# Altium footprint library RUMBA_library.PcbLib: 41 footprints (part 3 of 3)
Each footprint in its own frame and in the unit in brackets; x right, y up, seen from the top. Pads: shape width x height; smd on the part's side, far side on the other; paste and mask are expansions set on the pad; w line width, h text height; cw(c..) or ccw(c..) is an arc to the next point about the centre after c.
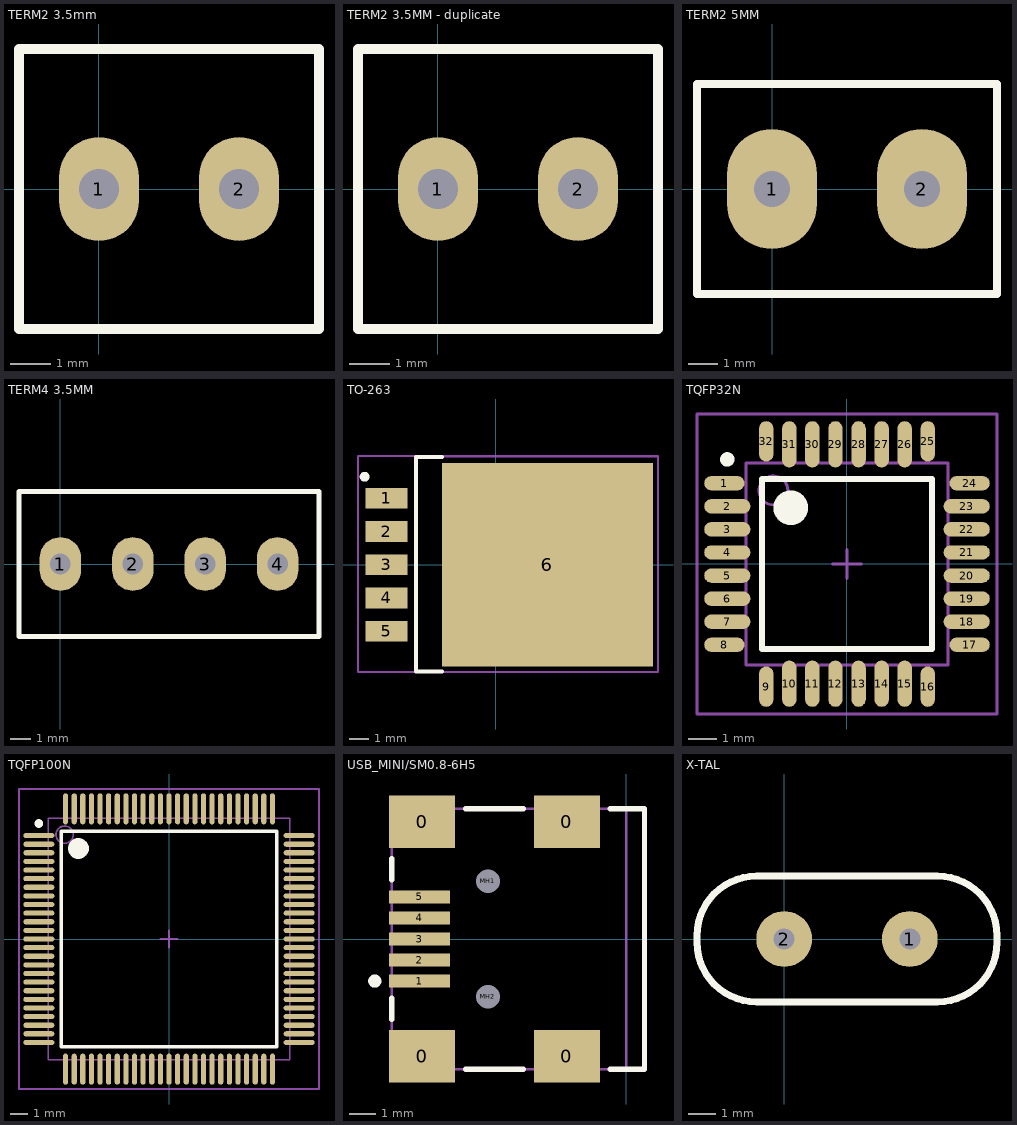
[diagram p2: the footprints below, top view; thin cyan lines are the x and y axes]

## TERM2 3.5mm [mm]
pads (2):
  oval 2x2.6 hole 1: 1(0,0) 2(3.5,0)
Top Overlay:
  lines w0.254: -2,-3.5 5.5,-3.5 5.5,3.5 -2,3.5 -2,-3.5
3D body "Term 2 pin 3.5mm.STEP": height 8.51, standoff -3.5, extent -1.854,-3.797 5.258,3.493

## TERM2 3.5MM - duplicate [mm]
pads (2):
  oval 2x2.6 hole 1: 1(0,0) 2(3.5,0)
Top Overlay:
  lines w0.254: -2,-3.5 -2,3.5 5.5,3.5 5.5,-3.5 -2,-3.5
3D body "Term 2 pin 3.5mm.STEP": height 8.51, standoff -3.5, extent -1.854,-3.67 5.258,3.62

## TERM2 5MM [mm]
pads (2):
  oval 3x4 hole 1.2: 1(0,0) 2(5,0)
Top Overlay:
  lines w0.254: -2.5,-3.5 -2.5,3.5 7.5,3.5 7.5,-3.5 -2.5,-3.5
3D body "Term 2 pin 5mm.STEP": height 14.6, standoff -2.92, extent -2.54,-4.902 7.468,5.004

## TERM4 3.5MM [mm]
pads (4):
  oval 2x2.6 hole 1: 1(0,0) 2(3.5,0) 3(7,0) 4(10.5,0)
Top Overlay:
  lines w0.254: -2,-3.5 12.5,-3.5 12.5,3.5 -2,3.5 -2,-3.5
3D body "Term 4 pin 3.5mm.STEP": height 8.51, standoff -3.5, extent -1.727,-3.81 12.243,3.48

## TO-263 [mm]
pads (6):
  rect 2.16x1.07 smd: 1(-5.582,3.4) 2(-5.582,1.7) 3(-5.582,0) 4(-5.582,-1.7) 5(-5.582,-3.4)
  rect 10.8x10.41 smd: 6(2.65,0)
Top Overlay:
  circle w0.25: c-6.7,4.5 r0.125
  lines w0.2: -4.064,5.512 -4.064,-5.461 -4.059,-5.466 -2.75,-5.466 ; -4.064,5.517 -2.75,5.517
Mechanical 13:
  lines w0.1: -4.039,-5.486 8.306,-5.486 8.306,5.537 -4.039,5.537 -4.039,-5.486
Mechanical 15:
  lines w0.1: -0.5,0 0.5,0 ; 0,-0.5 0,0.5 ; -7.036,-5.486 8.306,-5.486 8.306,5.563 -7.036,5.563 -7.036,-5.486
3D body "TO263-5-1.stp": height 4.22, standoff 0, extent -6.488,-4.919 8.114,4.902

## TQFP32N [mm]
pads (32):
  oval 1.4x0.5 smd: 1(-4.25,2.8) 8(-4.25,-2.8) 17(4.25,-2.8) 24(4.25,2.8)
  oval 1.6x0.5 smd: 2(-4.15,2) 3(-4.15,1.2) 4(-4.15,0.4) 5(-4.15,-0.4) 6(-4.15,-1.2) 7(-4.15,-2) 18(4.15,-2) 19(4.15,-1.2) 20(4.15,-0.4) 21(4.15,0.4) 22(4.15,1.2) 23(4.15,2)
  oval 0.5x1.4 smd: 9(-2.8,-4.25) 16(2.8,-4.25) 25(2.8,4.25) 32(-2.8,4.25)
  oval 0.5x1.6 smd: 10(-2,-4.15) 11(-1.2,-4.15) 12(-0.4,-4.15) 13(0.4,-4.15) 14(1.2,-4.15) 15(2,-4.15) 26(2,4.15) 27(1.2,4.15) 28(0.4,4.15) 29(-0.4,4.15) 30(-1.2,4.15) 31(-2,4.15)
Top Overlay:
  circle w0.6: c-1.95,1.95 r0.3
  circle w0.25: c-4.15,3.625 r0.125
  lines w0.2: -2.95,-2.95 2.95,-2.95 2.95,2.95 -2.95,2.95 -2.95,-2.95
Mechanical 13:
  circle w0.1: c-2.55,2.55 r0.5
  lines w0.1: -3.5,-3.5 3.5,-3.5 3.5,3.5 -3.5,3.5 -3.5,-3.5
Mechanical 15:
  lines w0.1: -0.5,0 0.5,0 ; 0,-0.5 0,0.5 ; -5.2,-5.2 5.2,-5.2 5.2,5.2 -5.2,5.2 -5.2,-5.2
3D body "TQFP-32.STEP": height 1.1, standoff 0, extent -4.5,-4.5 4.5,4.5

## TQFP100N [mm]
pads (100):
  oval 1.8x0.3 smd: 1(-7.55,6) 2(-7.55,5.5) 3(-7.55,5) 4(-7.55,4.5) 5(-7.55,4) 6(-7.55,3.5) 7(-7.55,3) 8(-7.55,2.5) 9(-7.55,2) 10(-7.55,1.5) 11(-7.55,1) 12(-7.55,0.5) 13(-7.55,0) 14(-7.55,-0.5) 15(-7.55,-1) 16(-7.55,-1.5) 17(-7.55,-2) 18(-7.55,-2.5) 19(-7.55,-3) 20(-7.55,-3.5) 21(-7.55,-4) 22(-7.55,-4.5) 23(-7.55,-5) 24(-7.55,-5.5) 25(-7.55,-6) 51(7.55,-6) 52(7.55,-5.5) 53(7.55,-5) 54(7.55,-4.5) 55(7.55,-4) 56(7.55,-3.5) 57(7.55,-3) 58(7.55,-2.5) 59(7.55,-2) 60(7.55,-1.5) 61(7.55,-1) 62(7.55,-0.5) 63(7.55,0) 64(7.55,0.5) 65(7.55,1) 66(7.55,1.5) 67(7.55,2) 68(7.55,2.5) 69(7.55,3) 70(7.55,3.5) 71(7.55,4) 72(7.55,4.5) 73(7.55,5) 74(7.55,5.5) 75(7.55,6)
  oval 0.3x1.8 smd: 26(-6,-7.55) 27(-5.5,-7.55) 28(-5,-7.55) 29(-4.5,-7.55) 30(-4,-7.55) 31(-3.5,-7.55) 32(-3,-7.55) 33(-2.5,-7.55) 34(-2,-7.55) 35(-1.5,-7.55) 36(-1,-7.55) 37(-0.5,-7.55) 38(0,-7.55) 39(0.5,-7.55) 40(1,-7.55) 41(1.5,-7.55) 42(2,-7.55) 43(2.5,-7.55) 44(3,-7.55) 45(3.5,-7.55) 46(4,-7.55) 47(4.5,-7.55) 48(5,-7.55) 49(5.5,-7.55) 50(6,-7.55) 76(6,7.55) 77(5.5,7.55) 78(5,7.55) 79(4.5,7.55) 80(4,7.55) 81(3.5,7.55) 82(3,7.55) 83(2.5,7.55) 84(2,7.55) 85(1.5,7.55) 86(1,7.55) 87(0.5,7.55) 88(0,7.55) 89(-0.5,7.55) 90(-1,7.55) 91(-1.5,7.55) 92(-2,7.55) 93(-2.5,7.55) 94(-3,7.55) 95(-3.5,7.55) 96(-4,7.55) 97(-4.5,7.55) 98(-5,7.55) 99(-5.5,7.55) 100(-6,7.55)
Top Overlay:
  circle w0.25: c-7.55,6.7 r0.125
  circle w0.6: c-5.25,5.25 r0.3
  lines w0.2: -6.25,-6.25 -6.25,6.25 6.25,6.25 6.25,-6.25 -6.25,-6.25
Mechanical 13:
  circle w0.1: c-6.05,6.05 r0.5
  lines w0.1: -7,-7 -7,7 7,7 7,-7 -7,-7
Mechanical 15:
  lines w0.1: -0.5,0 0.5,0 ; 0,-0.5 0,0.5 ; -8.7,-8.7 -8.7,8.7 8.7,8.7 8.7,-8.7 -8.7,-8.7
3D body "User Library-LQFP-100-1.STEP": height 1.11, standoff -0.01, extent -7.978,-8.031 8.023,7.97

## USB_MINI/SM0.8-6H5 [mm]
pads (11):
  rect 2.5x2 smd: 0(-7.75,-4.45) 0(-7.75,4.45) 0(-2.25,-4.45) 0(-2.25,4.45)
  rect 2.3x0.5 smd: 1(-7.85,-1.6) 2(-7.85,-0.8) 3(-7.85,0) 4(-7.85,0.8) 5(-7.85,1.6)
  round 0.6 hole 0.9 unplated: MH1(-5.25,2.2) MH2(-5.25,-2.2)
Top Overlay:
  circle w0.25: c-9.55,-1.6 r0.125
  lines w0.2: -8.9,-3.05 -8.9,-2.25 ; -8.9,2.25 -8.9,3.05 ; -6.1,-4.95 -3.9,-4.95 ; -6.1,4.95 -3.9,4.95 ; -0.6,-4.95 0.7,-4.95 0.7,4.95 -0.6,4.95
Mechanical 1:
  lines w0.1: 0,-4.95 0,4.95
  text "PCB Edge" at 0.432,-4.036 h0.25
Mechanical 13:
  lines w0.1: -8.9,-4.95 -8.9,4.95 0.7,4.95 0.7,-4.95 -8.9,-4.95
3D body "mini usb1.STEP": height 3.9, standoff -0.05, extent -8.736,-4.947 0.659,4.953

## X-TAL [mil]
pads (2):
  round 80 hole 30: 1(180,0) 2(0,0)
Top Overlay:
  lines w10: -125,-5 ccw(c-40,-5) -40,-90 220,-90 ccw(c220,-5) 305,-5 305,5 ccw(c220,5) 220,90 -40,90 ccw(c-40,5) -125,5 -125,-5
3D body "XTAL-HP49US.STEP": height 137.8, standoff -118.11, extent -134,-91.54 312.85,91.54